# Altium schematic symbol library LKS034DO_Motor_0520_1.SCHLIB: 19 symbols
Pins are listed as number, name and electrical type; pins without a type are passive.

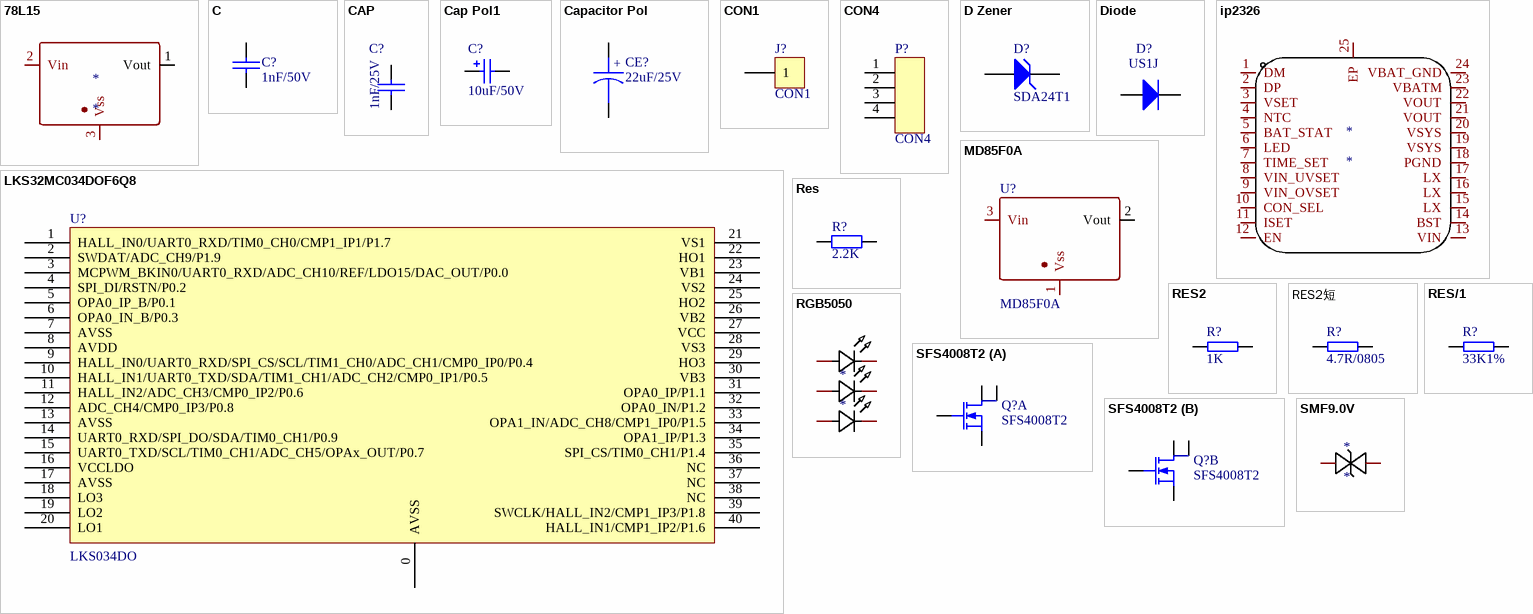
[diagram p0: symbols 78L15 to SMF9.0V]

## 78L15
designator *
pins: 1 Vout, 2 Vin, 3 Vss

## C
designator C?, comment 1nF/50V
Capacitor
footprint C5
footprint C7.5
footprint C10
footprint C12.5
footprint C0603
footprint 0402
pins: 1, 2
2 alternate drawings of the same symbol

## CAP
designator C?, comment 1nF/25V
Capacitor
footprint 0603A
footprint 0402
pins: 1, 2
2 alternate drawings of the same symbol

## Cap Pol1
designator C?, comment 10uF/50V
Polarized Capacitor (Radial); Value: 47uF/50V; Published: 8-Jun-2000; LatestRevisionDate: 17-Jul-2002; LatestRevisionNote: Re-released for DXP Platform.; PackageReference: RB7.6-15; Publisher: Altium Limited; = Value: 47uF/50V
footprint SMD6.3
footprint 0805R
footprint RB.12/.22
footprint F55
footprint 0805R
pins: 1, 2
2 alternate drawings of the same symbol

## Capacitor Pol
designator CE?, comment 22uF/25V
Capacitor---电解电容
footprint CE-7.5*16
footprint CE-7.5*18
footprint 220UF/16V 6.3*7.7
footprint 220UF/25V 8*10
footprint 220UF/63V 12.5*12.5 (贴片电解电容：高12cm*宽12cm)
footprint CAP 10*22*31.5 (脚距10mm直径22mm高度31.5mm)
footprint CAP 7.5*18*35.5 (脚距7.5mm直径18mm高度35.5mm)
footprint CAP 7.5*16*31.5 (脚距7.5mm直径16mm高度31.5mm)
footprint CAP 7.5*16*25 (脚距7.5mm直径16mm高度25mm)
footprint CAP 5.0*12.5*25 (脚距5mm直径12.5mm高度25mm)
footprint CAP 5.0*12.5*20 (脚距5mm直径12.5mm高度20mm)
footprint CAP 5.0*10*20 (脚距5mm直径10mm高度20mm)
footprint CAP 5.0*10*16 (脚距5mm直径10mm高度16mm)
footprint CAP 5.0*10*12.5 (脚距5mm直径10mm高度12.5mm)
footprint CAP 3.5*8*11.5 (脚距3.5mm直径8mm高度11.5mm)
footprint CAP 2.5*6.3*11.2 (脚距2.5mm直径6.3mm高度11.2mm)
footprint CAP 2.5*6.3*7 (脚距2.5mm直径6.3mm高度7mm)
footprint CAP 2.5*5*11 (脚距2.5mm直径5mm高度11mm)
footprint CAP 2.0*5*11 (脚距2mm直径5mm高度11mm)
footprint CAP 1.5*4*8 (脚距1.5mm直径4mm高度8mm)
footprint 0805R
pins: 1, 2
text: +

## CON1
designator J?
Connector
footprint PAD1.2
pins: 1
2 alternate drawings of the same symbol

## CON4
designator P?
footprint 2.54-4P
pins: 1 (oc), 2 (oc), 3 (oc), 4 (oc)
2 alternate drawings of the same symbol

## D Zener
designator D?, comment SDA24T1
Zener Diode; Published: 8-Jun-2000; LatestRevisionDate: 17-Jul-2002; LatestRevisionNote: Re-released for DXP Platform.; PackageReference: DIODE-0.7; Publisher: Altium Limited
footprint SOD-523
pins: 1 A, 2 K

## Diode
designator D?, comment US1J
Default Diode; Published: 8-Jun-2000; LatestRevisionDate: 17-Jul-2002; LatestRevisionNote: Re-released for DXP Platform.; PackageDocument: Sep-1996; PackageReference: SMC; Publisher: Altium Limited; Code_JEDEC: DO-214-AB
footprint SMC
footprint D1808
footprint D1810
footprint D1206
footprint SOD-323
pins: 1 A, 2 K
2 alternate drawings of the same symbol

## ip2326
designator *
pins: 1 DM, 2 DP, 3 VSET, 4 NTC, 5 BAT_STAT, 6 LED, 7 TIME_SET, 8 VIN_UVSET, 9 VIN_OVSET, 10 CON_SEL, 11 ISET, 12 EN, 13 VIN, 14 BST, 15 LX, 16 LX, 17 LX, 18 PGND, 19 VSYS, 20 VSYS, 21 VOUT, 22 VOUT, 23 VBATM, 24 VBAT_GND, 25 EP

## LKS32MC034DOF6Q8
designator U?, comment LKS034DO
CHIP
footprint QFN40
footprint LINKO-084D
pins: 0 AVSS, 1 HALL_IN0/UART0_RXD/TIM0_CH0/CMP1_IP1/P1.7, 2 SWDAT/ADC_CH9/P1.9, 3 MCPWM_BKIN0/UART0_RXD/ADC_CH10/REF/LDO15/DAC_OUT/P0.0, 4 SPI_DI/RSTN/P0.2, 5 OPA0_IP_B/P0.1, 6 OPA0_IN_B/P0.3, 7 AVSS, 8 AVDD, 9 HALL_IN0/UART0_RXD/SPI_CS/SCL/TIM1_CH0/ADC_CH1/CMP0_IP0/P0.4, 10 HALL_IN1/UART0_TXD/SDA/TIM1_CH1/ADC_CH2/CMP0_IP1/P0.5, 11 HALL_IN2/ADC_CH3/CMP0_IP2/P0.6, 12 ADC_CH4/CMP0_IP3/P0.8, 13 AVSS, 14 UART0_RXD/SPI_DO/SDA/TIM0_CH1/P0.9, 15 UART0_TXD/SCL/TIM0_CH1/ADC_CH5/OPAx_OUT/P0.7, 16 VCCLDO, 17 AVSS, 18 LO3, 19 LO2, 20 LO1, 21 VS1, 22 HO1, 23 VB1, 24 VS2, 25 HO2, 26 VB2, 27 VCC, 28 VS3, 29 HO3, 30 VB3, 31 OPA0_IP/P1.1, 32 OPA0_IN/P1.2, 33 OPA1_IN/ADC_CH8/CMP1_IP0/P1.5, 34 OPA1_IP/P1.3, 35 SPI_CS/TIM0_CH1/P1.4, 36 NC, 37 NC, 38 NC, 39 SWCLK/HALL_IN2/CMP1_IP3/P1.8, 40 HALL_IN1/CMP1_IP2/P1.6

## MD85F0A
designator U?
footprint SOT89-3
pins: 1 Vss, 2 Vout, 3 Vin

## Res
designator R?, comment 2.2K
Resistor; Value: K; Published: 8-Jun-2000; LatestRevisionDate: 17-Jul-2002; LatestRevisionNote: Re-released for DXP Platform.; PackageReference: AXIAL-0.4; Publisher: Altium Limited; PackageDescription: Axial Device, Thru-Hole; 2 Leads; 0.4 in Pin Spacing
footprint 0402
footprint 0805R
footprint 1206R
footprint 0402R
footprint 1210
footprint 2512
pins: 1, 2

## RES2
designator R?, comment 1K
footprint 0402
pins: 1, 2
2 alternate drawings of the same symbol

## RES2短
designator R?, comment 4.7R/0805
footprint 0805R
pins: 1, 2

## RES/1
designator R?, comment 33K1%
footprint 0603
footprint 0402
footprint 0402
pins: 1, 2
2 alternate drawings of the same symbol

## RGB5050
designator *
pins: 1 +, 2 +, 3 +, 4 -, 5 -, 6 -

## SFS4008T2
designator Q?
footprint SOP8-8L
part A pins: 3 D1, 4 D1, 5 S1, 6 G1
part B pins: 1 D2, 2 D2, 7 S2, 8 G2

## SMF9.0V
designator *
pins: 1 C, 2 A